# EAGLE library part MICROFIT3_VERT_20PIN (library molex)
Micro-Fit 3.0™ Vertical Header, 3.00mm Pitch, Dual Row, 20 Circuits, with PCB Polarizing Peg, Gold, Glow Wire Compliant, Black Part Number: 43045-2028 http://www.molex.com/molex/products/datasheet.jsp?part=active/0430452028_PCB_HEADERS.xml
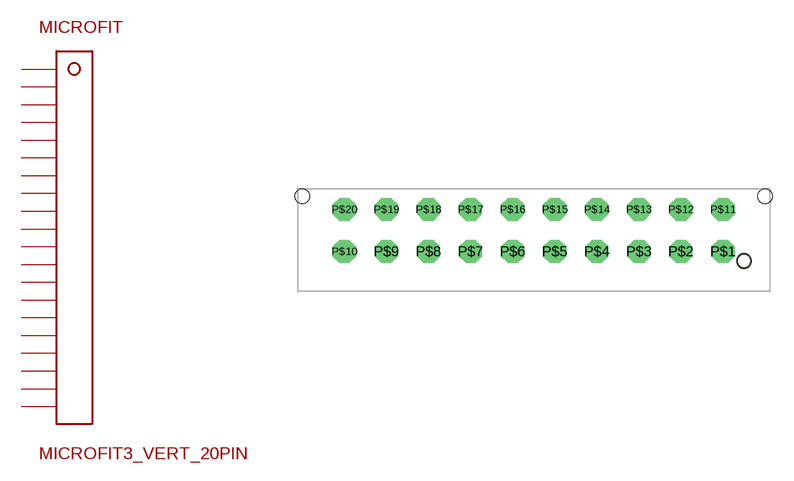
[diagram p2: symbol with the pads of MICROFIT3_VERT_20PIN; footprint MICROFIT3_VERT_20PIN]

Designator prefix MICROFIT

## MICROFIT3_VERT_20PIN43045-2028  [MICROFIT3_VERT_20PIN]
P$1  P$1
P$2  P$2
P$3  P$3
P$4  P$4
P$5  P$5
P$6  P$6
P$7  P$7
P$8  P$8
P$9  P$9
P$10  P$10
P$11  P$11
P$12  P$12
P$13  P$13
P$14  P$14
P$15  P$15
P$16  P$16
P$17  P$17
P$18  P$18
P$19  P$19
P$20  P$20

## Footprint MICROFIT3_VERT_20PIN (pad centres in mm)
drill 1.1 octagon: P$1 13.5,-0.815; P$2 10.5,-0.815; P$3 7.5,-0.815; P$4 4.5,-0.815; P$5 1.5,-0.815; P$6 -1.5,-0.815; P$7 -4.5,-0.815; P$8 -7.5,-0.815; P$9 -10.5,-0.815; P$10 -13.5,-0.815; P$11 13.5,2.185; P$12 10.5,2.185; P$13 7.5,2.185; P$14 4.5,2.185; P$15 1.5,2.185; P$16 -1.5,2.185; P$17 -4.5,2.185; P$18 -7.5,2.185; P$19 -10.5,2.185; P$20 -13.5,2.185
hole 1.05 at -16.5,3.125
hole 1.05 at 16.5,3.125